# Altium schematic symbol library balloon.SchLib: 132 symbols (part 1 of 2)
Pins are listed as number, name and electrical type; pins without a type are passive.

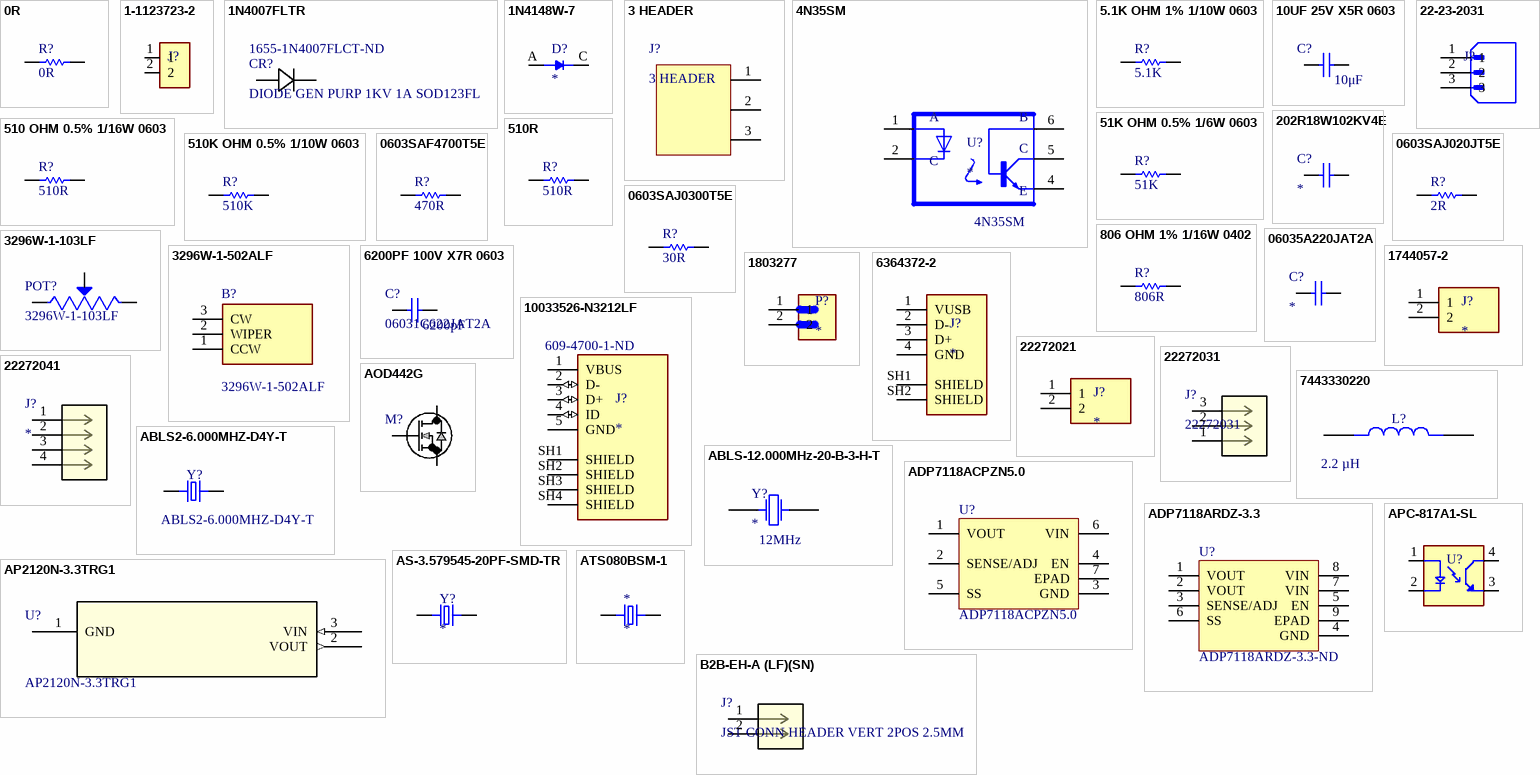
[diagram p0: symbols 0R to B2B-EH-A (LF)(SN)]

## 0R
designator R?, comment Resistance: 0R  (hidden comment: CR0603AJ/-000EAS)
RES.(1608) 0603 0R Ohms 1% 1/10W-S; Supplier PN: CR0603AJ/-000EASCT-ND; Supplier: DIGIKEY; ComponentLink1Description: Supplier Link; ComponentLink1URL: 0R; Supplier 1: Digi-Key; Supplier Part Number 1: CR0603AJ/-000EASCT-ND
footprint 0603 RES
pins: 1, 2

## 1-1123723-2
designator J?, comment CONN HEADER VERT 2POS 3.96MM  (value not drawn)
Connector Header Through Hole 2 position 0.156" (3.96mm); Manufacturer: TE Connectivity AMP Connectors; Number_of_Positions: 2; MF: TE Connectivity; MP: 1-1123723-2; Centerline_Pitch: 3.96 mm[.156 in]; EU_RoHS_Compliance: Compliant; Value: *; TE_purchase_URL: https://www.te.com/usa-en/product-1-1123723-2.html?te_bu=Cor&te_type=disp&te_campaign=seda_glo_cor-seda-global-disp-prtnr-fy19-seda-model-bom-cta_sma-317_1&elqCampaignId=32493; Product_Type: Header; SnapEDA_Link: https://www.snapeda.com/parts/1-1123723-2/TE%20Connectivity%20AMP%20Connectors/view-part/231687/?ref=snap; Package: None; Digi-Key_Purchase_URL: https://www.digikey.com/product-detail/en/te-connectivity-amp-connectors/1-1123723-2/A111830-ND/686925?utm_source=snapeda&utm_medium=aggregator&utm_campaign=symbol; Digi-Key_Part_Number: A111830-ND; Supplier PN: A111830-ND; Supplier: DIGIKEY; Manufacturer PN: 1-1123723-2
footprint TE_1-1123723-2
pins: 1, 2

## 1N4007FLTR
designator CR?, comment DIODE GEN PURP 1KV 1A SOD123FL  Supplier Part Number 1: 1655-1N4007FLCT-ND
Diode Standard 1000 V 1A Surface Mount SOD-123FL; Mfr_Name: SMC Diode Solutions; Manufacturer_Part_Number: 1N4007FLTR; Manufacturer PN: 1N4007FL; Type: DEV; Copyright: Copyright (C) 2022 Ultra Librarian. All rights reserved.; Digi-Key_Part_Number_1: 1655-1N4007FLCT-ND; Digi-Key_Part_Number_2: 1655-1N4007FLDKR-ND; Digi-Key_Part_Number_3: 1655-1N4007FLTR-ND; RefDes: RefDes; Supplier 1: Digi-Key; Supplier PN: 1655-1N4007FLCT-ND; Supplier: DIGIKEY
footprint CR_SOD-123FL_SME
pins: 1, 2

## 1N4148W-7
designator D?
Diode Standard 100 V 300mA (DC) Surface Mount SOD-123; MF: Diodes Inc.; MP: 1N4148W; Value: *; Price: None; Package: SOD-123 Fairchild Semiconductor; SnapEDA_Link: https://www.snapeda.com/parts/1N4148W-7/Diodes+Inc./view-part/?ref=snap; Availability: In Stock; Check_prices: https://www.snapeda.com/parts/1N4148W-7/Diodes+Inc./view-part/?ref=eda; Purchase-URL: https://www.digikey.com/en/products/detail/smc-diode-solutions/1N4148W/6022450; Supplier PN: 1655-1N4148WCT-ND; Supplier: Digikey
footprint SOD3715X135N
pins: A, C K

## 3 HEADER
designator J?
footprint 3 HEADER
pins: 1, 2, 3

## 4N35SM
designator U?  MP: 4N35SM
Transistor Output Optocouplers PHOTO TRANS; MF: ON Semiconductor / Fairchild; SnapEDA_Link: https://www.snapeda.com/parts/4N35SM/Fairchild%20Semiconductor/view-part/4834122/?ref=snap; Mouser-Purchase-URL: https://snapeda.com/shop?store=Mouser&id=4834122; Availability: Good; DigiKey-Purchase-URL: https://snapeda.com/shop?store=DigiKey&id=4834122; Package: None; Value: *; Price: None; Arrow_Electronics-Purchase-URL: https://snapeda.com/shop?store=Arrow+Electronics&id=4834122; Supplier 1: Digi-Key; Supplier Part Number 1: 4N35SM-ND
footprint OPTO_4N35SM
pins: 1 A, 2 C, 4 E, 5 CO, 6 B

## 5.1K OHM 1% 1/10W 0603
designator R?, comment Resistance: 5.1K  (hidden comment: RC0603FR-075K1L)
RES 5.1K OHM 1% 1/10W 0603; Supplier PN: 311-5.10KHRCT-ND; Supplier: DIGIKEY; ComponentLink1Description: Supplier Link; ComponentLink1URL: 0R; Supplier 1: Digi-Key; Supplier Part Number 1: 311-5.10KHRCT-ND
footprint 0603 RES
pins: 1, 2

## 10UF 25V X5R 0603
designator C?, comment value 10μF  (hidden comment: GRM188R61E106KA73J)
CAP CER 10UF 25V X5R 0603; Supplier PN: 490-GRM188R61E106KA73JCT-ND; Supplier: DIGIKEY; Supplier 1: Digi-Key; Supplier Part Number 1: 490-GRM188R61E106KA73JCT-ND
footprint 0603 CAP
pins: 1, 2

## 22-23-2031
designator J?, comment MOLEX CONN HEADER VERT 3POS 2.54MM  (value not drawn)
Connector Header Through Hole 3 position 0.100" (2.54mm); Digi-Key_Part_Number: WM4201-ND; Check_prices: https://www.snapeda.com/parts/22-23-2031/Molex/view-part/?ref=eda; MF: Molex; SnapEDA_Link: https://www.snapeda.com/parts/22-23-2031/Molex/view-part/?ref=snap; Value: *; MP: 22-23-2031; Package: None; Purchase-URL: https://pricing.snapeda.com/search/part/22-23-2031/?ref=eda
footprint MOLEX_22-23-2031
pins: 1, 2, 3

## 51K OHM 0.5% 1/6W 0603
designator R?, comment Resistance: 51K  (hidden comment: RNCF0603DTE51K0)
RES 51K OHM 0.5% 1/6W 0603; Supplier PN: 738-RNCF0603DTE51K0CT-ND; Supplier: DIGIKEY; ComponentLink1Description: Supplier Link; ComponentLink1URL: https://www.digikey.com/en/products/detail/stackpole-electronics-inc/RNCF0603DTE51K0/1708165; Supplier 1: Digi-Key; Supplier Part Number 1: 738-RNCF0603DTE51K0CT-ND
footprint 0603 RES
pins: 1, 2

## 202R18W102KV4E
designator C?
1000pF Â±10% 2000V (2kV) Ceramic Capacitor X7R 1206 (3216 Metric); MF: Johanson Dielectrics; MP: 202R18W102KV4E; Digi-Key_Part_Number: 709-1036-1-ND; SnapEDA_Link: https://www.snapeda.com/parts/202R18W102KV4E/Johanson%20Dielectrics%20Inc./view-part/2041482/?ref=snap; Purchase-URL: https://pricing.snapeda.com/search/part/202R18W102KV4E/?ref=eda; Package: 1206 Johanson; Value: *; Check_prices: https://www.snapeda.com/parts/202R18W102KV4E/Johanson%20Dielectrics%20Inc./view-part/2041482/?ref=eda
footprint CAPC3115X170N
pins: 1, 2

## 510 OHM 0.5% 1/16W 0603
designator R?, comment Resistance: 510R  (hidden comment: RR0816P-511-D)
RES SMD 510 OHM 0.5% 1/16W 0603; Supplier PN: 541-3190-1-ND; Supplier: DIGIKEY; ComponentLink1Description: Supplier Link; ComponentLink1URL: 0R; Supplier 1: Digi-Key; Supplier Part Number 1: RR08P510DCT-ND
footprint 0603 RES
pins: 1, 2

## 510K OHM 0.5% 1/10W 0603
designator R?, comment Resistance: 510K  (hidden comment: RT0603DRE07510KL)
RES SMD 510K OHM 0.5% 1/10W 0603; Supplier PN: 311-2610-1-ND; Supplier: DIGIKEY; ComponentLink1Description: Supplier Link; ComponentLink1URL: 0R; Supplier 1: Digi-Key; Supplier Part Number 1: 311-2610-1-ND
footprint 0603 RES
pins: 1, 2

## 510R
designator R?, comment Resistance: 510R  (hidden comment: TNPW0603510RBEEA)
RES 510 OHM 0.1% 1/10W 0603; Supplier PN: 541-3190-1-ND; Supplier: DIGIKEY; ComponentLink1Description: Supplier Link; ComponentLink1URL: 0R; Supplier 1: Digi-Key; Supplier Part Number 1: 541-3190-1-ND
footprint 0603 RES
pins: 1, 2

## 0603SAF4700T5E
designator R?  Resistance: 470R  (hidden comment: 0603SAF4700T5E)
RES.(1608) 0603 470 Ohms 1% 1/10W-S 100PPM; Supplier PN: 0603SAF4700T5E; Supplier: OZDISAN; ComponentLink1Description: Supplier Link; ComponentLink1URL: https://ozdisan.com/pasif-komponentler/direncler/smt-smd-ve-cip-direncler/0603SAF4700T5E
footprint 0603RES
pins: 1, 2

## 0603SAJ020JT5E
designator R?  Resistance: 2R  (hidden comment: 0603SAJ020JT5E)
RES.(1608) 0603 2 Ohms 5% 1/10W-S 400PPM; Supplier PN: 0603SAJ020JT5E; Supplier: OZDISAN; ComponentLink1Description: Supplier Link; ComponentLink1URL: https://ozdisan.com/pasif-komponentler/direncler/smt-smd-ve-cip-direncler/0603SAJ020JT5E
footprint 0603RES
pins: 1, 2

## 0603SAJ0300T5E
designator R?  Resistance: 30R  (hidden comment: 0603SAJ0300T5E)
RES.(1608) 0603 30 Ohms 5% 1/10W-S 200PPM; Supplier PN: 0603SAJ0300T5E; Supplier: OZDISAN; ComponentLink1Description: Supplier Link; ComponentLink1URL: https://www.ozdisan.com/pasif-komponentler/direncler/smt-smd-ve-cip-direncler/0603SAJ0300T5E
footprint 0603RES
pins: 1, 2

## 806 OHM 1% 1/16W 0402
designator R?, comment Resistance: 806R  (hidden comment: RR0816P-511-D)
RES SMD 806 OHM 1% 1/16W 0402; Supplier PN: 541-3190-1-ND; Supplier: DIGIKEY; ComponentLink1Description: Supplier Link; ComponentLink1URL: https://www.digikey.com/en/products/detail/yageo/RT0402FRE07806RL/1072143; Supplier 1: Digi-Key; Supplier Part Number 1: YAG3349CT-ND
footprint 0402 RES
pins: 1, 2

## 3296W-1-103LF
designator POT?
Trimmer, Cermet, Rest 10 Kilohms, PCB, 25 Turns, Pwr-Rtg 0.5W, 3296 Series; Manufacturer: Bourns; Resistance: 10kR; Tolerance: 10%; Power Rating: 500mW; Number of Turns: 25; Temperature Coefficient: 100ppm/°C; Insulation Resistance: 1GR; Supplier 1: Digi-Key; Manufacturer Part Number: 3296W-1-103LF; RoHS: Yes; Category: Variable Resistors and Potentiometers; Stock 1: 7042; Pricing 1: 1=2.41000, 10=2.11700, 25=1.89800, 50=1.82500, 100=1.75200, 250=1.67900, 500=1.38700, 1000=1.31400, 5000=1.09500 (USD); Mount: PCB,Through Hole; Weight: 0.03oz; Color: Blue; Contact Plating: Tin,Matte; Min Operating Temperature: -55°C; Max Operating Temperature: 125°C; Packaging: Rail/Tube; Termination: Pin; Package Quantity: 50; Resistor Type: Cermet; Technology: CERMET; Taper: Linear; Max Power Dissipation: 500mW; Series: 3296; Resistance Tolerance: 10%; Length: 9.53mm; Width: 9.53mm; Height: 0.395inch; Depth: 4.83mm; Radiation Hardening: No; Military Standard: Not; REACH SVHC: No SVHC; RoHS Compliant: Yes; Lead Free: Lead Free; ComponentLink1URL: https://datasheet.ciiva.com/19454/853572-19454866.pdf?src-supplier=Jameco; ComponentLink1Description: https://datasheet.ciiva.com/19454/853572-19454866.pdf?src-supplier=Jameco; ComponentLink2URL: https://datasheet.ciiva.com/11830/0900766b8069ccf4-11830871.pdf?src-supplier=RSComponents; ComponentLink2Description: https://datasheet.ciiva.com/11830/0900766b8069ccf4-11830871.pdf?src-supplier=RSComponents; ComponentLink3URL: https://datasheet.ciiva.com/29122/447277-da-01-en-trimmer-tht3296w-1-103lf-10k-0-5w-29122362.pdf?src-supplier=Conrad; ComponentLink3Description: https://datasheet.ciiva.com/29122/447277-da-01-en-trimmer-tht3296w-1-103lf-10k-0-5w-29122362.pdf?src-supplier=Conrad; ComponentLink4URL: https://datasheet.ciiva.com/26913/3296w-1-103lf-26913885.pdf?src-supplier=IIIC; ComponentLink4Description: https://datasheet.ciiva.com/26913/3296w-1-103lf-26913885.pdf?src-supplier=IIIC; ComponentLink5URL: https://datasheet.ciiva.com/1131/1815117-1131273.pdf?src-supplier=Element14; ComponentLink5Description: https://datasheet.ciiva.com/1131/1815117-1131273.pdf?src-supplier=Element14; ComponentLink6URL: https://datasheet.ciiva.com/18411/70153578-18411561.pdf?src-supplier=Allied+Electronics; ComponentLink6Description: https://datasheet.ciiva.com/18411/70153578-18411561.pdf?src-supplier=Allied+Electronics; ComponentLink7URL: https://datasheet.ciiva.com/3266/3296-3266187.pdf?src-supplier=Avnet; ComponentLink7Description: https://datasheet.ciiva.com/3266/3296-3266187.pdf?src-supplier=Avnet; ComponentLink8URL: https://datasheet.ciiva.com/30093/3296-30093899.pdf?src-supplier=Onlinecomponents.com; ComponentLink8Description: https://datasheet.ciiva.com/30093/3296-30093899.pdf?src-supplier=Onlinecomponents.com; ComponentLink9URL: https://datasheet.ciiva.com/2156/3296-2156893.pdf?src-supplier=Digi-Key; ComponentLink9Description: https://datasheet.ciiva.com/2156/3296-2156893.pdf?src-supplier=Digi-Key; ComponentLink10URL: https://datasheet.ciiva.com/14173/ew3296-dat-e-14173022.pdf?src-supplier=Distrelec; ComponentLink10Description: https://datasheet.ciiva.com/14173/ew3296-dat-e-14173022.pdf?src-supplier=Distrelec; Supplier Part Number 1: 3296W-103LF-ND
footprint 3296W-1-103LF
pins: 1 CCW, 2 WIPER, 3 CW

## 3296W-1-502ALF
designator B?
Trimmer Resistors - Through Hole 3/8" 5Kohms Sealed Vertical Adjust; Manufacturer_Name: Bourns; Geometry.Height: 11.8mm; Manufacturer_Part_Number: 3296W-1-502ALF; Mouser Part Number: 652-3296W-1-502ALF; Mouser Price/Stock: https://www.mouser.co.uk/ProductDetail/Bourns/3296W-1-502ALF?qs=2esLye6h6wF9Wpw2gFsopg%3D%3D; Arrow Part Number: 3296W-1-502ALF; Arrow Price/Stock: https://www.arrow.com/en/products/3296w-1-502alf/bourns?utm_currency=USD&region=nac; Datasheet Link: https://www.bourns.com/docs/Product-Datasheets/3296.pdf
footprint 3296W1502ALF
pins: 1 CCW, 2 WIPER, 3 CW

## 06035A220JAT2A
designator C?
22pF ±5% 50V Ceramic Capacitor C0G, NP0 0603 (1608 Metric); MP: 06035A220JAT2A; MF: AVX; SnapEDA_Link: https://www.snapeda.com/parts/06035A220JAT2A/AVX/view-part/349759/?ref=snap; Availability: Good; Package: 1608 AVX; Price: None; Value: 22pF; Purchase-URL: https://pricing.snapeda.com/search/part/06035A220JAT2A/?ref=eda; Supplier 1: Digi-Key; Supplier Part Number 1: 478-1167-1-ND
footprint 0603cap
pins: 1, 2

## 6200PF 100V X7R 0603
designator C?, comment 06031C622JAT2A  value 6200pF
CAP CER 6200PF 100V X7R 0603; Supplier 1: Digi-Key; Supplier Part Number 1: 478-10228-1-ND; Supplier PN: 478-10228-1-ND; Supplier: DIGIKEY
footprint 0603 CAP
pins: 1, 2

## 1744057-2
designator J?
3.96 EP HDR ASSY 2P W/PEGS; Manufacturer: TE Connectivity AMP Connectors; Product_Type: Header; Centerline_Pitch: 3.96 mm[.156 in]; Number_of_Positions: 2; MF: TE Connectivity; MP: 1744057-2; Availability: Good; Price: None; SnapEDA_Link: https://www.snapeda.com/parts/1744057-2/TE%20Connectivity/view-part/900004/?ref=snap; Mouser-Purchase-URL: https://snapeda.com/shop?store=Mouser&id=900004; EU_RoHS_Compliance: Compliant; Value: *; Package: None; DigiKey-Purchase-URL: https://snapeda.com/shop?store=DigiKey&id=900004; Supplier PN: A108467-ND; Manufacturer PN: 1744057-2; Supplier: DIGIKEY; Supplier 1: Digi-Key; Supplier Part Number 1: A108467-ND
footprint TE_1744057-2
pins: 1, 2

## 1803277
designator P?
2 Position Terminal Block Header, Male Pins, Shrouded _4 Side_ 0.150 _3.81mm_ 90Â°, Right Angle Through Hole; MP: 1803277; MF: Phoenix Contact; Digi-Key_Purchase_URL: https://www.digikey.com/product-detail/en/phoenix-contact/1803277/277-1206-ND/260574?utm_source=snapeda&utm_medium=aggregator&utm_campaign=symbol; Digi-Key_Part_Number: 277-1206-ND; Package: FakePackage N; Value: *; SnapEDA_Link: https://www.snapeda.com/parts/1803277/Phoenix%20Contact/view-part/115436/?ref=snap; Supplier PN: 277-1206-ND; Supplier: DIGIKEY; Manufacturer PN: 1803277; Manufacturer: Phoenix Contact; Supplier 1: Digi-Key; Supplier Part Number 1: 277-1206-ND
footprint PHOENIX_1803277
pins: 1, 2

## 6364372-2
designator J?
Conn USB 2.0 Type A RCP 4 POS Solder RA Thru-Hole 4 Terminal 1 Port Box/Tube; Manufacturer: TE Connectivity AMP Connectors; MP: 6364372-2; MF: TE Connectivity; SnapEDA_Link: https://www.snapeda.com/parts/6364372-2/TE+Connectivity+AMP+Connectors/view-part/?ref=snap; Package: None; Check_prices: https://www.snapeda.com/parts/6364372-2/TE+Connectivity+AMP+Connectors/view-part/?ref=eda; Purchase-URL: https://pricing.snapeda.com/search/part/6364372-2/?ref=eda; Digi-Key_Part_Number: A122647-ND; EU_RoHS_Compliance: Compliant; Value: *; Supplier PN: A122647-ND; Supplier: DIGIKEY; Manufacturer PN: 6364372-2
footprint TE_6364372-2
pins: 1 VUSB, 2 D-, 3 D+, 4 GND, SH1 SHIELD, SH2 SHIELD

## 10033526-N3212LF
designator J?  Supplier Part Number 1: 609-4700-1-ND
MINI USB, R/A, 2.0 TYPE B, RCPT, SMD; USB Connector Type:Mini USB Type B; USB Standard:USB 2.0; Gender:Receptacle; No. of Positions:5Positions; Connector Mounting:Surface Mount; Orientation:Right Angle; Contact Material:Copper Alloy RoHS Compliant: Yes; Manufacturer PN: 10033526-N3212LF; Manufacturer: Amphenol ICC (FCI); MP: 10033526N3212LF; MF: Amphenol; Package: None; Availability: In Stock; Value: *; Price: None; SnapEDA_Link: https://www.snapeda.com/parts/10033526N3212LF/Amphenol/view-part/?ref=snap; Check_prices: https://www.snapeda.com/parts/10033526N3212LF/Amphenol/view-part/?ref=eda; Supplier PN: 609-4700-1-ND; Supplier: DIGIKEY; Supplier 1: Digi-Key
footprint AMPHENOL_10033526-N3212LF
pins: 1 VBUS (power), 2 D- (io), 3 D+ (io), 4 ID (io), 5 GND (power), SH1 SHIELD, SH2 SHIELD, SH3 SHIELD, SH4 SHIELD

## 22272021
designator J?
Conn Wire to Board HDR 2 POS 2.54mm Solder ST Thru-Hole Bag; MF: Molex; MP: 22272021; Value: *; SnapEDA_Link: https://www.snapeda.com/parts/22272021/Molex/view-part/?ref=snap; Purchase-URL: https://pricing.snapeda.com/search/part/22272021/?ref=eda; Check_prices: https://www.snapeda.com/parts/22272021/Molex/view-part/?ref=eda; Digi-Key_Part_Number: WM4111-ND; Package: None
footprint MOLEX_22272021
pins: 1, 2

## 22272031
designator J?
No Description Available; Mfr_Name: Molex Connector Corporation; Copyright: Copyright (C) 2023 Ultra Librarian. All rights reserved.; Manufacturer_Part_Number: 22272031; Digi-Key_Part_Number_1: WM4112-ND; RefDes: RefDes; Type: DEV
footprint CONN_22-27-2031_MOL
pins: 1, 2, 3

## 22272041
designator J?
No Description Available; Mfr_Name: Molex Connector Corporation; RefDes: RefDes; Type: Type
footprint CONN_22-27-2041_MOL
pins: 1, 2, 3, 4

## 7443330220
designator L?, comment Inductance: 2.2 µH  (hidden comment: FIXED IND 2.2UH 16.5A 4.8MOHM SM)
2.2 µH Shielded Drum Core, Wirewound Inductor 16.5 A 4.8mOhm Max Nonstandard; MF: Wurth Elektronik; MP: 7443330220; SnapEDA_Link: https://www.snapeda.com/parts/7443310220/Wurth+Elektronik/view-part/?ref=snap; Digi-Key_Part_Number: 732-2153-1-ND; Package: None; Supplier PN: 732-2153-1-ND; Supplier 1: Digi-Key; Supplier Part Number 1: 732-2153-1-ND
footprint IND_7443330220
pins: 1, 2

## ABLS2-6.000MHZ-D4Y-T
designator Y?
CRYSTAL 6.0000MHZ 18PF SMD; Manufacturer: Abracon LLC; Value: 6MHz; MF: ECS Inc.; Package: HC-49/US; Availability: Good; Supplier PN: 535-9861-1-ND; Supplier: DIGIKEY; ComponentLink1Description: Supplier Link; ComponentLink1URL: https://www.ozdisan.com/pasif-komponentler/kristaller-osilatorler-ve-rezanatorler/kristaller/AS-3-579545-20PF-SMD-TR; Manufacturer PN: ABLS2-6.000MHZ-D4Y-T
footprint XTAL_ABLS2-6.000MHZ-D4Y-T
pins: 1, 2

## ABLS-12.000MHz-20-B-3-H-T
designator Y?  value 12MHz
HC/49US (AT49) SMD LOW PROFILE CRYSTAL; MF: Abracon LLC; MP: ABLS-12.000MHZ-20-B-3-H-T; SnapEDA_Link: https://www.snapeda.com/parts/ABLS-12.000MHZ-20-B-3-H-T/Abracon+LLC/view-part/?ref=snap; Check_prices: https://www.snapeda.com/parts/ABLS-12.000MHZ-20-B-3-H-T/Abracon+LLC/view-part/?ref=eda; Digi-Key_Part_Number: 535-15006-2-ND; Package: None; Purchase-URL: https://pricing.snapeda.com/search/part/ABLS-12.000MHZ-20-B-3-H-T/?ref=eda; Supplier 1: Digi-Key; Supplier Part Number 1: 535-15006-1-ND
footprint XTAL_ABLS-12.000MHz-20-B-3-H-T
pins: 1, 2

## ADP7118ACPZN5.0
designator U?
LDO Regulator Pos 5V 0.2A 6-Pin LFCSP T/R; Manufacturer: Analog Devices; Manufacturer Part Number: ADP7118ACPZN5.0-R7; Output Current: 200mA; Dropout Voltage: 200mV; Number of Regulators: 1; Min Current Limit: 250mA; Supplier 1: Digi-Key; RoHS: Yes; Category: Voltage Regulators - Linear; Stock 1: 4481; Pricing 1: 1=2.41000, 10=2.16300, 25=2.04040, 100=1.73850, 250=1.63240, 500=1.42836, 1000=1.27050 (USD); Mount: Surface Mount; Number of Pins: 6; Min Operating Temperature: -40°C; Max Operating Temperature: 125°C; Packaging: Tape and Reel; Output Voltage: 5V; Lead Free: Contains Lead; RoHS Compliant: Yes; ComponentLink1URL: https://www.analog.com/media/en/technical-documentation/data-sheets/ADP7118.pdf?src-supplier=Digi-Key; ComponentLink1Description: https://www.analog.com/media/en/technical-documentation/data-sheets/ADP7118.pdf?src-supplier=Digi-Key; ComponentLink2URL: http://www.analog.com/static/imported-files/data_sheets/ADP7118.pdf?src-supplier=Avnet; ComponentLink2Description: http://www.analog.com/static/imported-files/data_sheets/ADP7118.pdf?src-supplier=Avnet; Supplier Part Number 1: ADP7118ACPZN5.0-R7CT-ND
footprint LFCSP-6_large
pins: 1 VOUT, 2 SENSE/ADJ, 3 GND, 4 EN, 5 SS, 6 VIN, 7 EPAD

## ADP7118ARDZ-3.3
designator U?  Supplier Part Number 1: ADP7118ARDZ-3.3-ND  (hidden comment: ADP7118ARDZ-3.3)
LDO Regulator Positive 3.3V 0.2A 8-Pin SOIC N EP Tube; Manufacturer: Analog Devices; Output Current: 200mA; Dropout Voltage: 200mV; Number of Regulators: 1; Min Current Limit: 250mA; Min Input Voltage: 2.7V; Max Input Voltage: 20V; Quiescent Current: 50uA; Accuracy: 0.8%; Output Type: Fixed; Supplier 1: Digi-Key; Manufacturer Part Number: ADP7118ARDZ-3.3; RoHS: Yes; Category: Voltage Regulators - Linear; Stock 1: 967; Pricing 1: 1=2.44000, 10=2.19100, 25=2.06720, 100=1.76110, 250=1.65360, 500=1.44690, 1000=1.28700 (USD); Mount: Surface Mount; Case/Package: SOIC; Number of Pins: 8; Contact Plating: Tin,Matte; Min Operating Temperature: -40°C; Max Operating Temperature: 125°C; Packaging: Rail/Tube; Output Voltage: 3.3V; Max Output Current: 200mA; Number of Outputs: 1; Polarity: Positive; Length: 5mm; Width: 4mm; Height: 1.65mm; Lead Free: Contains Lead; RoHS Compliant: Yes; ComponentLink1URL: http://uk.rs-online.com/webdocs/13b2/0900766b813b26d7.pdf?src-supplier=RSComponents; ComponentLink1Description: http://uk.rs-online.com/webdocs/13b2/0900766b813b26d7.pdf?src-supplier=RSComponents; ComponentLink2URL: http://www.mouser.com/ds/2/609/ADP7118-876130.pdf?src-supplier=Mouser; ComponentLink2Description: http://www.mouser.com/ds/2/609/ADP7118-876130.pdf?src-supplier=Mouser; ComponentLink3URL: http://www.analog.com/media/en/technical-documentation/data-sheets/ADP7118.pdf?src-supplier=Avnet; ComponentLink3Description: http://www.analog.com/media/en/technical-documentation/data-sheets/ADP7118.pdf?src-supplier=Avnet; ComponentLink4URL: http://www.analog.com/media/en/technical-documentation/data-sheets/ADP7118.pdf?src-supplier=Digi-Key; ComponentLink4Description: http://www.analog.com/media/en/technical-documentation/data-sheets/ADP7118.pdf?src-supplier=Digi-Key
footprint SOIC8
pins: 1 VOUT, 2 VOUT, 3 SENSE/ADJ, 4 GND, 5 EN, 6 SS, 7 VIN, 8 VIN, 9 EPAD

## AOD442G
designator M?, comment MOSFET N-CH 60V 13A/40A TO252  (value not drawn)
N-Channel 60 V 13A (Ta), 40A (Tc) 6.2W (Ta), 60W (Tc) Surface Mount TO-252 (DPAK); Manufacturer PN: AOD442G; Supplier 1: Digi-Key; Supplier Part Number 1: 785-AOD442GCT-ND; Supplier PN: 785-AOD442GCT-ND
footprint DPAK229P990X238-3N
pins: 1 G, 2 D, 3 S

## AP2120N-3.3TRG1
designator U?
IC REG LINEAR 3.3V 150MA SOT23; Mfr_Name: Diodes Inc; Manufacturer: Diodes Incorporated; RefDes: RefDes; Type: Type; Supplier: DIGIKEY; Supplier PN: AP2120N-3.3TRG1DICT-ND; Supplier 1: Digi-Key; Supplier Part Number 1: AP2120N-3.3TRG1DICT-ND; Manufacturer PN: AP2120N-3.3TRG1
footprint SOT-23_DIO
pins: 1 GND (power), 2 VOUT (out), 3 VIN (in)

## APC-817A1-SL
designator U?, comment OPTOISOLATOR 5KV 1CH TRANS 4SMD  (value not drawn)
Optoisolator Transistor Output 5000Vrms 1 Channel 4-SMD; Manufacturer PN: APC-817A1-SL; Manufacturer: American Bright Optoelectronics Corporation; MP: PC817XI; MF: Sharp Microelectronics; Price: None; Availability: In Stock; Package: SMD-4 Sharp Microelectronics; Value: *; SnapEDA_Link: https://www.snapeda.com/parts/PC817XI/Sharp+Microelectronics/view-part/?ref=snap; Purchase-URL: https://pricing.snapeda.com/search/part/PC817XI/?ref=eda; Check_prices: https://www.snapeda.com/parts/PC817XI/Sharp+Microelectronics/view-part/?ref=eda; Supplier: DIGIKEY; Supplier PN: 2007-APC-817A1-SLCT-ND
footprint SOIC254P975X460-4N
pins: 1 A, 2 C, 3 ET, 4 CT

## AS-3.579545-20PF-SMD-TR
designator Y?
CRYSTAL 3.579545MHZ HC49S 20PF SMD TR RALTRON; MP: AS-3.579545-20PF-SMD-TR; MF: ECS Inc.; Package: CRYSTAL 3.579545MHZ HC49S 20PF SMD TR RALTRON; Price: None; Availability: Good; Value: 3.579545MHz; Mouser-Purchase-URL: https://snapeda.com/shop?store=Mouser&id=2549147; SnapEDA_Link: https://www.snapeda.com/parts/ECS-35-18-5PXDU-TR/ECS%20Inc./view-part/2549147/?ref=snap; Supplier PN: AS-3.579545-20PF-SMD-TR; Supplier: OZDISAN; ComponentLink1Description: Supplier Link; ComponentLink1URL: https://www.ozdisan.com/pasif-komponentler/kristaller-osilatorler-ve-rezanatorler/kristaller/AS-3-579545-20PF-SMD-TR
footprint XTAL_ECS-35-18-5PXDU-TR
pins: 1, 2

## ATS080BSM-1
designator *
pins: 1, 2

## B2B-EH-A (LF)(SN)
designator J?, comment JST CONN HEADER VERT 2POS 2.5MM
Connector Header Through Hole 2 position 0.098" (2.50mm); Manufacturer_Part_Number: B2B-EH-A (LF)(SN); Manufacturer PN: B2B-EH-A(LF)(SN); Copyright: Copyright (C) 2023 Ultra Librarian. All rights reserved.; Mfr_Name: JST; Digi-Key_Part_Number_1: 455-1611-ND; RefDes: RefDes; Type: DEV; Supplier PN: 455-1611-ND
footprint CONN_B2B-EH-A (LF)(SN)_JST
pins: 1, 2

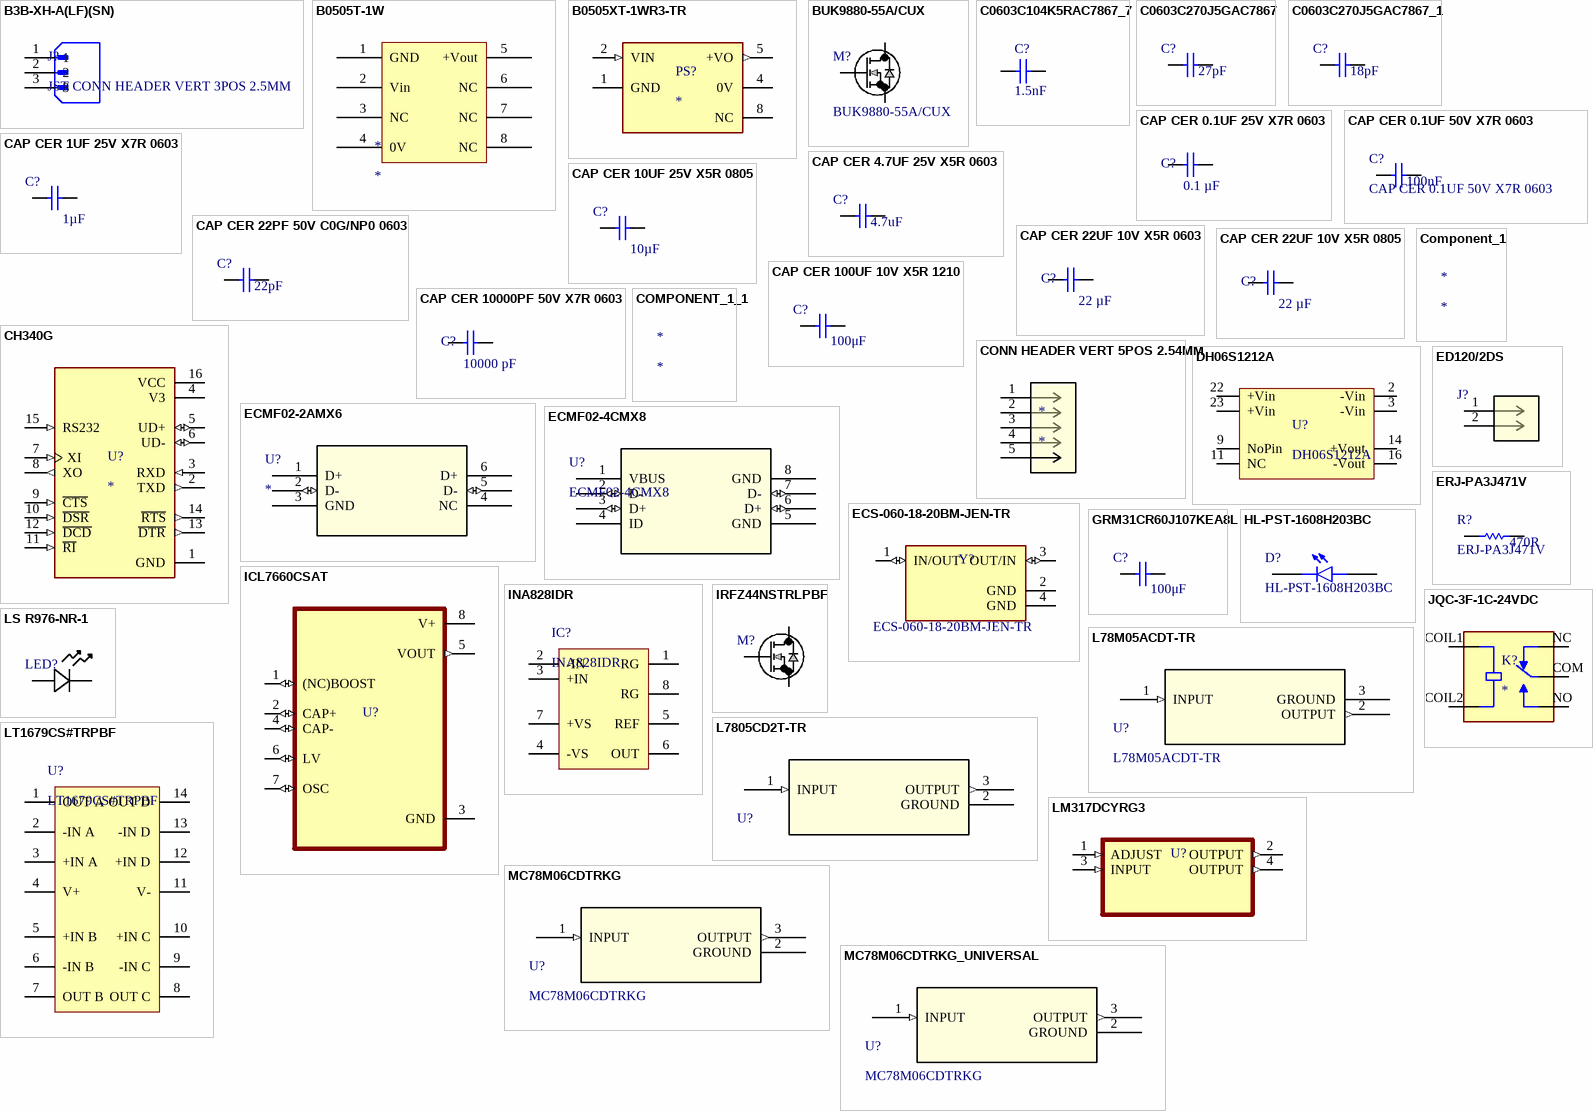
[diagram p1: symbols B3B-XH-A(LF)(SN) to MC78M06CDTRKG_UNIVERSAL]

## B3B-XH-A(LF)(SN)
designator J?, comment JST CONN HEADER VERT 3POS 2.5MM
Connector Header Through Hole 3 position 0.098" (2.50mm); MP: B3B-XH-A(LF)(SN); MF: JST Sales; Check_prices: https://www.snapeda.com/parts/B3B-XH-A(LF)(SN)/JST+Sales+America+Inc./view-part/?ref=eda; Value: *; Availability: In Stock; Price: None; Package: None; SnapEDA_Link: https://www.snapeda.com/parts/B3B-XH-A(LF)(SN)/JST+Sales+America+Inc./view-part/?ref=snap; Purchase-URL: https://pricing.snapeda.com/search/part/B3B-XH-A(LF)(SN)/?ref=eda; Manufacturer PN: B3B-XH-A(LF)(SN); Supplier PN: 455-2248-ND
footprint JST_B3B-XH-A(LF)(SN)
pins: 1, 2, 3

## B0505T-1W
designator *
pins: 1 GND, 2 Vin (power), 3 NC, 4 0V, 5 +Vout, 6 NC, 7 NC, 8 NC

## B0505XT-1WR3-TR
designator PS?
Isolated Module DC DC Converter 1 Output 5V 200mA 4.5V - 5.5V Input; MP: B0505XT-1WR3-TR; MF: MORNSUN; Package: SOIC-8-5 MORNSUN; SnapEDA_Link: https://www.snapeda.com/parts/B0505XT-1WR3-TR/MORNSUN/view-part/5823714/?ref=snap; Check_prices: https://www.snapeda.com/parts/B0505XT-1WR3-TR/MORNSUN/view-part/5823714/?ref=eda; Availability: In Stock; Value: *; Price: None
footprint CONV_B0505XT-1WR3-TR
pins: 1 GND (power), 2 VIN (in), 4 0V, 5 +VO (out), 8 NC

## BUK9880-55A/CUX
designator M?
MOSFET N-CH 55V 7A SOT223; Manufacturer: Nexperia USA Inc.; Supplier PN: 1727-2230-1-ND; Supplier: DIGIKEY; Supplier 1: Digi-Key; Supplier Part Number 1: 1727-2230-1-ND; Manufacturer PN: BUK9880-55A/CUX
footprint TRANS_BCP56-16TX
pins: 1 G, 2 D, 3 S

## C0603C104K5RAC7867_7
designator C?, comment Capacitance: 1.5nF  (hidden comment: MLCC (1608) 0603 1.5nF 50VDC ±5% X7R)
Supplier PN: CL10B152JB8NNNC; Supplier: OZDISAN; ComponentLink1Description: Supplier Link; ComponentLink1URL: https://www.ozdisan.com/pasif-komponentler/kondansatorler/smt-smd-ve-mlcc-kondansatorler/CL10B152JB8NNNC
footprint 0603cap
pins: 1, 2

## C0603C270J5GAC7867
designator C?  Capacitance: 27pF  (hidden comment: C0603C270J5GAC7867)
CAP CER 27PF 50V C0G/NP0 0603; Supplier PN: 399-C0603C270J5GAC7867CT-ND; Supplier: Digikey; Manufacturer PN: C0603C270J5GAC7867; Supplier 1: Digi-Key; Supplier Part Number 1: 399-C0603C270J5GAC7867CT-ND
footprint 0603 CAP
pins: 1, 2

## C0603C270J5GAC7867_1
designator C?, comment Capacitance: 18pF  (hidden comment: 0603N180J500CT)
CAP CER 18PF 50V C0G/NP0 0603; Manufacturer: Walsin Technology Corporation; Supplier PN: 1292-1494-1-ND; Supplier: Digikey; Manufacturer PN: 0603N180J500CT; Supplier 1: Digi-Key; Supplier Part Number 1: 1292-1494-1-ND
footprint 0603 CAP
pins: 1, 2

## CAP CER 0.1UF 25V X7R 0603
designator C?  Capacitance: 0.1 µF  (hidden comment: CAP CER 0.1UF 25V X7R 0603)
0.1 µF ±5% 25V Ceramic Capacitor X7R 0603 (1608 Metric); Manufacturer PN: C0603C104J3RACAUTO; Supplier 1: Digi-Key; Supplier Part Number 1: 399-12996-1-ND; Supplier PN: 399-12996-1-ND
footprint 0603cap
pins: 1, 2

## CAP CER 0.1UF 50V X7R 0603
designator C?  Capacitance: 100nF
0.1 µF ±10% 50V Ceramic Capacitor X7R 0603 (1608 Metric); Manufacturer PN: C0603C104K5RAC7867; Supplier PN: 399-C0603C104K5RAC7867CT-ND; Supplier: Digikey
footprint 0603 CAP
pins: 1, 2

## CAP CER 1UF 25V X7R 0603
designator C?  Capacitance: 1µF  (hidden comment: CAP CER 1UF 25V X7R 0603)
1 µF ±10% 25V Ceramic Capacitor X7R 0603 (1608 Metric); Manufacturer: Samsung Electro-Mechanics; Manufacturer PN: CL10B105KA8NNNC; Supplier PN: 1276-1184-1-ND; Supplier: Digikey; Supplier 1: Digi-Key; Supplier Part Number 1: 1276-1184-1-ND
footprint 0603 CAP
pins: 1, 2

## CAP CER 4.7UF 25V X5R 0603
designator C?, comment Capacitance: 4.7uF  (hidden comment: C1608X5R1E475K080AC)
CAP CER 4.7UF 25V X5R 0603; Manufacturer: TDK Corporation; Supplier PN: 445-9050-1-ND; Supplier: Digikey; Manufacturer PN: C1608X5R1E475K080AC; Supplier 1: Digi-Key; Supplier Part Number 1: 445-9050-1-ND
footprint 0603 CAP
pins: 1, 2

## CAP CER 10UF 25V X5R 0805
designator C?  Capacitance: 10µF  (hidden comment: CAP CER 10UF 25V X5R 0805)
10 µF ±20% 25V Ceramic Capacitor X5R 0805 (2012 Metric); Supplier 1: Digi-Key; Supplier Part Number 1: 490-10748-1-ND
footprint CAPC2012X140N
pins: 1, 2

## CAP CER 22PF 50V C0G/NP0 0603
designator C?, comment Capacitance: 22pF  (hidden comment: 06035A220JAT2A)
22 pF ±5% 50V Ceramic Capacitor C0G, NP0 0603 (1608 Metric); Supplier PN: 478-1167-1-ND; Supplier: Digikey; Manufacturer PN: 06035A220JAT2A; Supplier 1: Digi-Key; Supplier Part Number 1: 478-1167-1-ND
footprint 0603 CAP
pins: 1, 2

## CAP CER 22UF 10V X5R 0603
designator C?, comment Capacitance: 22 µF  (hidden comment: CL10A226MP8NUNE)
CAP CER 22UF 10V X5R 0603; Manufacturer: Samsung Electro-Mechanics; Supplier PN: 1276-1274-1-ND; Manufacturer PN: CL10A226MP8NUNE; Supplier: Digikey
footprint 0603 CAP
pins: 1, 2

## CAP CER 22UF 10V X5R 0805
designator C?  Capacitance: 22 µF  (hidden comment: CAP CER 22UF 10V X5R 0805)
22 µF ±20% 10V Ceramic Capacitor X5R 0805 (2012 Metric); Manufacturer PN: GRM21BR61A226ME44L; Supplier 1: Digi-Key; Supplier Part Number 1: 490-10746-1-ND; Supplier PN: 490-10746-1-ND
footprint CAPC2012X140N
pins: 1, 2

## CAP CER 100UF 10V X5R 1210
designator C?, comment value 100μF  (hidden comment: GRM32ER61A107ME20L)
CAP CER 100UF 10V X5R 1210; Manufacturer: Murata Electronics; Supplier PN: 490-9969-1-ND; Supplier: DIGIKEY; Manufacturer PN: GRM32ER61A107ME20L; Supplier 1: Digi-Key; Supplier Part Number 1: 490-9969-1-ND
footprint CAPC(1210)_3225X280N
pins: 1, 2

## CAP CER 10000PF 50V X7R 0603
designator C?  Capacitance: 10000 pF  (hidden comment: CAP CER 10000PF 50V X7R 0603)
10000 pF ±10% 50V Ceramic Capacitor X7R 0603 (1608 Metric); Manufacturer PN: C1608X7R1H103K080AA; Supplier 1: Digi-Key; Supplier Part Number 1: 445-1311-1-ND; Supplier PN: 445-1311-1-ND
footprint 0603cap
pins: 1, 2

## CH340G
designator U?
MP: CH340G; Value: *; Package: None; Availability: Unavailable; Price: None
footprint SOIC127P600X180-16N
pins: 1 GND (power), 2 TXD (out), 3 RXD (in), 4 V3 (power), 5 UD+ (io), 6 UD- (io), 7 XI (in), 8 XO (out), 9 ~{CTS} (in), 10 ~{DSR} (in), 11 ~{RI} (in), 12 ~{DCD} (in), 13 ~{DTR} (out), 14 ~{RTS} (out), 15 RS232 (in), 16 VCC (power)

## Component_1
designator *

## COMPONENT_1_1
designator *

## CONN HEADER VERT 5POS 2.54MM
designator *
pins: 1, 2, 3, 4, 5

## DH06S1212A
designator U?
Module DC-DC 12VIN 1-OUT 12V 0.5A 6W 7-Pin PDIP
footprint DH06S1212A
pins: 2 -Vin, 3 -Vin, 9 NoPin, 11 NC, 14 +Vout, 16 -Vout, 22 +Vin, 23 +Vin

## ECMF02-2AMX6
designator U?
No Description Available; Mfr_Name: STMicroelectronics; RefDes: RefDes; Type: Type
footprint QFN-6L_STM-M - LARGE
pins: 1 D+, 2 D- (io), 3 GND (power), 4 NC, 5 D- (io), 6 D+

## ECMF02-4CMX8
designator U?
No Description Available; Mfr_Name: STMicroelectronics; Copyright: Copyright (C) 2022 Ultra Librarian. All rights reserved.; Manufacturer_Part_Number: ECMF02-4CMX8; Digi-Key_Part_Number_1: 497-13420-2-ND; Digi-Key_Part_Number_2: 497-13420-1-ND; Digi-Key_Part_Number_3: 497-13420-6-ND; RefDes: RefDes; Type: DEV; Supplier 1: Digi-Key; Supplier Part Number 1: 497-13420-1-ND
footprint MICRO_QFN-8L_STM
pins: 1 VBUS (power), 2 D- (io), 3 D+ (io), 4 ID, 5 GND, 6 D+ (io), 7 D- (io), 8 GND

## ECS-060-18-20BM-JEN-TR
designator Y?
6 MHz ±20ppm Crystal 18pF 70 Ohms 4-SMD, No Lead; MF: ECS Inc.; Value: 6MHZ; MP: ECS-060-18-20BM-JEN-TR; Package: SMD-4 ECS International; Purchase-URL: https://pricing.snapeda.com/search/part/ECS-060-18-20BM-JEN-TR/?ref=eda; Check_prices: https://www.snapeda.com/parts/ECS-060-18-20BM-JEN-TR/ECS%20Inc./view-part/2497452/?ref=eda; Price: None; Availability: Warning; SnapEDA_Link: https://www.snapeda.com/parts/ECS-060-18-20BM-JEN-TR/ECS%20Inc./view-part/2497452/?ref=snap; Manufacturer: ECS Inc.; Supplier: DIGIKEY; Supplier PN: XC2349CT-ND; Supplier 1: Digi-Key; Supplier Part Number 1: XC2349CT-ND; Manufacturer PN: ECS-060-18-20BM-JEN-TR
footprint ECS_ECS-060-18-20BM-JEN-TR
pins: 1 IN/OUT (io), 2 GND (power), 3 OUT/IN (io), 4 GND (power)

## ED120/2DS
designator J?  (value not drawn)
2 Position Wire to Board Terminal Block Horizontal with Board 0.200" (5.08mm) Through Hole; Mfr_Name: On Shore Technology; Copyright: Copyright (C) 2023 Ultra Librarian. All rights reserved.; Manufacturer_Part_Number: ED120/2DS; Digi-Key_Part_Number_1: ED1609-ND; RefDes: RefDes; Type: DEV; Supplier 1: Digi-Key; Supplier Part Number 1: ED1609-ND
footprint CONN_ED120/2DS_OST
pins: 1, 2

## ERJ-PA3J471V
designator R?  Resistance: 470R
RES SMD 470 OHM 5% 1/3W 0603; Mfr_Name: Panasonic; Copyright: Copyright (C) 2022 Ultra Librarian. All rights reserved.; Manufacturer_Part_Number: ERJ-PA3J471V; Digi-Key_Part_Number_1: P470BZTR-ND; Digi-Key_Part_Number_2: P470BZCT-ND; Digi-Key_Part_Number_3: P470BZDKR-ND; RefDes: RefDes; Type: DEV; Supplier 1: Digi-Key; Supplier Part Number 1: P470BZCT-ND
footprint RES_ERJPA3_PAN
pins: 1, 2

## GRM31CR60J107KEA8L
designator C?, comment value 100μF  (hidden comment: CAP CER 100UF 6.3V X5R 1206)
100 µF ±10% 6.3V Ceramic Capacitor X5R 1206 (3216 Metric); Manufacturer: Murata Electronics; Manufacturer PN: GRM31CR60J107KEA8L; Supplier PN: 490-GRM31CR60J107KEA8LCT-ND; Supplier: DIGIKEY
footprint CAP_GRM31_1206_MUR
pins: 1, 2

## HL-PST-1608H203BC
designator D?
LED SMD 0603 BLUE 100mcd 120° WATER CLEAR; Supplier PN: HL-PST-1608H203BC; Supplier: OZDISAN; ComponentLink9Description: Supplier Link; ComponentLink9URL: https://www.ozdisan.com/led-ve-aydinlatma-cozumleri/led-komponentler/sinyal-ledler-renkli/HL-PST-1608H203BC
footprint 0603Diode
pins: A, C

## ICL7660CSAT
designator U?, comment IC REG CHARG PUMP INV 45MA 8SOIC  (value not drawn)
Charge Pump Switching Regulator IC Positive or Negative Fixed -Vin, nVin, Vin/2 1 Output 20mA 8-SOIC (0.154, 3.90mm Width); MP: ICL7660CSA+T; MF: Maxim Integrated; Check_prices: https://www.snapeda.com/parts/ICL7660CSA+T/Maxim%20Integrated/view-part/8566/?ref=eda; Purchase-URL: https://pricing.snapeda.com/search/part/ICL7660CSA+T/?ref=eda; SnapEDA_Link: https://www.snapeda.com/parts/ICL7660CSA+T/Maxim%20Integrated/view-part/8566/?ref=snap; Value: *; Digi-Key_Part_Number: ICL7660CSA+TCT-ND; Package: SOIC-8 Maxim; Supplier 1: Digi-Key; Supplier Part Number 1: ICL7660AIBAZA-TCT-ND
footprint SOIC127P600X175-8N
pins: 1 (NC)BOOST (io), 2 CAP+ (io), 3 GND (power), 4 CAP- (io), 5 VOUT (out), 6 LV (io), 7 OSC (io), 8 V+ (power)

## INA828IDR
designator IC?
IC INST AMP 1 CIRCUIT 8SOIC; Supplier 1: Digi-Key; Supplier Part Number 1: 296-48914-1-ND
footprint SOIC8
pins: 1 RG, 2 -IN, 3 +IN, 4 -VS, 5 REF, 6 OUT, 7 +VS, 8 RG

## IRFZ44NSTRLPBF
designator M?  (value not drawn)
No Description Available; Mfr_Name: Infineon; Copyright: Copyright (C) 2023 Ultra Librarian. All rights reserved.; Manufacturer_Part_Number: IRFZ44NSTRLPBF; Digi-Key_Part_Number_1: IRFZ44NSTRLPBFTR-ND; Digi-Key_Part_Number_2: IRFZ44NSTRLPBFCT-ND; Digi-Key_Part_Number_3: IRFZ44NSTRLPBFDKR-ND; RefDes: RefDes; Type: DEV; Supplier 1: Digi-Key; Supplier Part Number 1: IRFZ44NSTRLPBFCT-ND; Supplier PN: IRFZ44NSTRLPBFCT-ND; Manufacturer PN: IRFZ44NSTRLPBF
footprint D2PAK_INF
pins: 1 G, 2 D, 3 S

## JQC-3F-1C-24VDC
designator K?
Miniature PCB Relay 24VDC, 10A 250VAC, 15A 125VAC, 10A 250VAC; MP: JQC-3F-1C-24VDC; Package: None; Value: *; Price: None; Availability: Unavailable; ComponentLink1Description: Supplier Link 2; ComponentLink1URL: https://www.direnc.net/12v-7a-tek-kontak-5-pinli-jqc-3ft73-12vdc-role-en; Supplier PN: JQC-3F-(T73)-1Z-12VDC; Supplier: OZDISAN; Supplier 2: DIRENC.NET; ComponentLink2Description: Supplier Link; ComponentLink2URL: https://ozdisan.com/elektromekanik-komponentler/role-role-soketleri/genel-tip-roleler/JQC-3F-T73-1Z-12VDC
footprint RELAY_JQC-3F-1C-24VDC
pins: COIL1, COIL2, COM, NC, NO

## L78M05ACDT-TR
designator U?
IC REG LINEAR 5V 500MA DPAK; Mfr_Name: STMicroelectronics; Copyright: Copyright (C) 2022 Ultra Librarian. All rights reserved.; Manufacturer_Part_Number: L78M05ACDT-TR; Digi-Key_Part_Number_1: 497-1202-1-ND; Digi-Key_Part_Number_2: 497-1202-2-ND; Digi-Key_Part_Number_3: 497-1202-6-ND; RefDes: RefDes; Type: DEV; Supplier PN 2: DSTK1864; Supplier PN: 497-1202-1-ND; Supplier: DIGIKEY; Supplier 2: OZDISAN; Manufacturer PN: L78M05ACDT-TR; Supplier 1: Digi-Key; Supplier Part Number 1: 497-1202-1-ND
footprint DPAK_STM
pins: 1 INPUT (in), 2 OUTPUT (out), 3 GROUND

## L7805CD2T-TR
designator U?, comment IC REG LINEAR 5V 1.5A D2PAK  (value not drawn)
Linear Voltage Regulator IC Positive Fixed 1 Output 1.5A D2PAK; Mfr_Name: onsemi; Manufacturer_Part_Number: MC78M06CDTRKG; Manufacturer: STMicroelectronics; Manufacturer PN: L7805CD2T-TR; Copyright: Copyright (C) 2022 Ultra Librarian. All rights reserved.; Digi-Key_Part_Number_1: 2156-MC78M06CDTRKG-OS-ND; Digi-Key_Part_Number_2: =MC78M06CDTRKG; Digi-Key_Part_Number_3: MC78M06CDTRKGOSCT-ND; Digi-Key_Part_Number_4: MC78M06CDTRKGOSDKR-ND; Digi-Key_Part_Number_5: MC78M06CDTRKGOSTR-ND; RefDes: RefDes; Type: DEV; Supplier 1: Digi-Key; Supplier Part Number 1: MC78M06CDTRKGOSCT-ND; Supplier PN: 497-1171-1-ND; Supplier: DIGIKEY
footprint D2PAK-DPAK_COMBINED_FOOTPRINT
pins: 1 INPUT (in), 2 GROUND (power), 3 OUTPUT (out)

## LM317DCYRG3
designator U?, comment LM317DCYR  (value not drawn)
Linear Voltage Regulator IC Positive Adjustable 1 Output 1.5A SOT-223-4; MP: LM317DCYRG3; MF: Texas Instruments; Availability: In Stock; SnapEDA_Link: https://www.snapeda.com/parts/LM317DCYRG3/Texas+Instruments/view-part/?ref=snap; Price: None; Purchase-URL: https://pricing.snapeda.com/search/part/LM317DCYRG3/?ref=eda; Value: *; Check_prices: https://www.snapeda.com/parts/LM317DCYRG3/Texas+Instruments/view-part/?ref=eda; Package: SOT-223-4 Texas Instruments; Manufacturer PN: LM317DCYR; Manufacturer: Texas Instruments; Supplier PN: 296-12602-1-ND; Supplier: Digikey; Supplier 1: Digi-Key; Supplier Part Number 1: 296-12602-1-ND
footprint SOT230P700X180-4N
pins: 1 ADJUST (in), 2 OUTPUT (out), 3 INPUT (in), 4 OUTPUT (out)

## LS R976-NR-1
designator LED?, comment LED RED DIFFUSED 0805 SMD  (value not drawn)
Red 633nm LED Indication - Discrete 2V 0805 (2012 Metric); Mfr_Name: ams OSRAM; Manufacturer_Part_Number: LS R976-NR-1; Type: DEV; Copyright: Copyright (C) 2023 Ultra Librarian. All rights reserved.; Digi-Key_Part_Number_1: 475-1278-2-ND; Digi-Key_Part_Number_2: 475-1278-1-ND; Digi-Key_Part_Number_3: 475-1278-6-ND; RefDes: RefDes; Supplier PN: 475-1278-1-ND; Manufacturer PN: LS R976-NR-1
footprint LED_LS R976_AOS
pins: 1, 2

## LT1679CS#TRPBF
designator U?
IC OPAMP GP 20MHZ RRO 14SO; Manufacturer: Analog Devices / Linear Technology; Common Mode Rejection Ratio: 98dB; Slew Rate: 6V/µs; Max Supply Voltage: 36V; Min Supply Voltage: 3V; Number of Circuits: 4; Input Bias Current: 2nA; Input Offset Voltage (Vos): 100uV; Operating Supply Current: 2.5mA; Output Current per Channel: 35mA; Voltage Gain: 131.6dB; Power Supply Rejection Ratio (PSRR): 100dB; Min Dual Supply Voltage: 1.35V; Max Dual Supply Voltage: 18V; Dual Supply Voltage: 15V; Amplifier Type: GENERAL PURPOSE; Supplier 1: Digi-Key; Manufacturer Part Number: LT1679CS#TRPBF; RoHS: Yes; Category: Amplifiers - Op Amps, Buffer, Instrumentation; Stock 1: 4120; Pricing 1: 1=9.36000, 10=8.45500, 25=8.06200, 100=7.00000, 250=6.68544, 500=6.12150 (USD); Case/Package: SOIC; Number of Pins: 14; Min Operating Temperature: -40°C; Max Operating Temperature: 85°C; Unity Gain Bandwidth Product: 20MHz; Package Quantity: 2500; Packaging: Tape and Reel; Gain Bandwidth Product: 20MHz; Number of Elements: 4; Number of Channels: 4; Series: -; Technology: BIPOLAR; Nominal Gain Bandwidth Product: 20MHz; Lead Free: Lead Free; RoHS Compliant: Yes; ComponentLink1URL: https://datasheet.ciiva.com/26856/lt1679cs-trpbf-26856232.pdf?src-supplier=IIIC; ComponentLink1Description: https://datasheet.ciiva.com/26856/lt1679cs-trpbf-26856232.pdf?src-supplier=IIIC; ComponentLink2URL: https://datasheet.ciiva.com/14799/2537-14799222.pdf?src-supplier=Digi-Key; ComponentLink2Description: https://datasheet.ciiva.com/14799/2537-14799222.pdf?src-supplier=Digi-Key; ComponentLink3URL: https://datasheet.ciiva.com/15057/2537-15057561.pdf?src-supplier=Digi-Key; ComponentLink3Description: https://datasheet.ciiva.com/15057/2537-15057561.pdf?src-supplier=Digi-Key; ComponentLink4URL: https://datasheet.ciiva.com/15057/2537-15057562.pdf?src-supplier=Digi-Key; ComponentLink4Description: https://datasheet.ciiva.com/15057/2537-15057562.pdf?src-supplier=Digi-Key; ComponentLink5URL: https://datasheet.ciiva.com/48709/001255015-da-01-en-ic-opamp-r-r-lt1679cs-trpbf-soic-14-ltc-48709003.pdf?src-supplier=Conrad; ComponentLink5Description: https://datasheet.ciiva.com/48709/001255015-da-01-en-ic-opamp-r-r-lt1679cs-trpbf-soic-14-ltc-48709003.pdf?src-supplier=Conrad; Supplier Part Number 1: LT1679CS#TRPBFCT-ND
footprint SO 14
pins: 1 OUT A, 2 -IN A, 3 +IN A, 4 V+, 5 +IN B, 6 -IN B, 7 OUT B, 8 OUT C, 9 -IN C, 10 +IN C, 11 V-, 12 +IN D, 13 -IN D, 14 OUT D

## MC78M06CDTRKG
designator U?
IC REG LINEAR 6V 500MA DPAK; Mfr_Name: onsemi; Copyright: Copyright (C) 2022 Ultra Librarian. All rights reserved.; Manufacturer_Part_Number: MC78M06CDTRKG; Digi-Key_Part_Number_1: 2156-MC78M06CDTRKG-OS-ND; Digi-Key_Part_Number_2: =MC78M06CDTRKG; Digi-Key_Part_Number_3: MC78M06CDTRKGOSCT-ND; Digi-Key_Part_Number_4: MC78M06CDTRKGOSDKR-ND; Digi-Key_Part_Number_5: MC78M06CDTRKGOSTR-ND; RefDes: RefDes; Type: DEV; Supplier 1: Digi-Key; Supplier Part Number 1: MC78M06CDTRKGOSCT-ND
footprint DPAK229P990X238-3N
pins: 1 INPUT (in), 2 GROUND (power), 3 OUTPUT (out)

## MC78M06CDTRKG_UNIVERSAL
designator U?, comment MC78M06CDTRKG
IC REG LINEAR 6V 500MA DPAK; Mfr_Name: onsemi; Copyright: Copyright (C) 2022 Ultra Librarian. All rights reserved.; Manufacturer_Part_Number: MC78M06CDTRKG; Digi-Key_Part_Number_1: 2156-MC78M06CDTRKG-OS-ND; Digi-Key_Part_Number_2: =MC78M06CDTRKG; Digi-Key_Part_Number_3: MC78M06CDTRKGOSCT-ND; Digi-Key_Part_Number_4: MC78M06CDTRKGOSDKR-ND; Digi-Key_Part_Number_5: MC78M06CDTRKGOSTR-ND; RefDes: RefDes; Type: DEV; Supplier 1: Digi-Key; Supplier Part Number 1: MC78M06CDTRKGOSCT-ND
footprint D2PAK-DPAK_COMBINED_FOOTPRINT
pins: 1 INPUT (in), 2 GROUND (power), 3 OUTPUT (out)

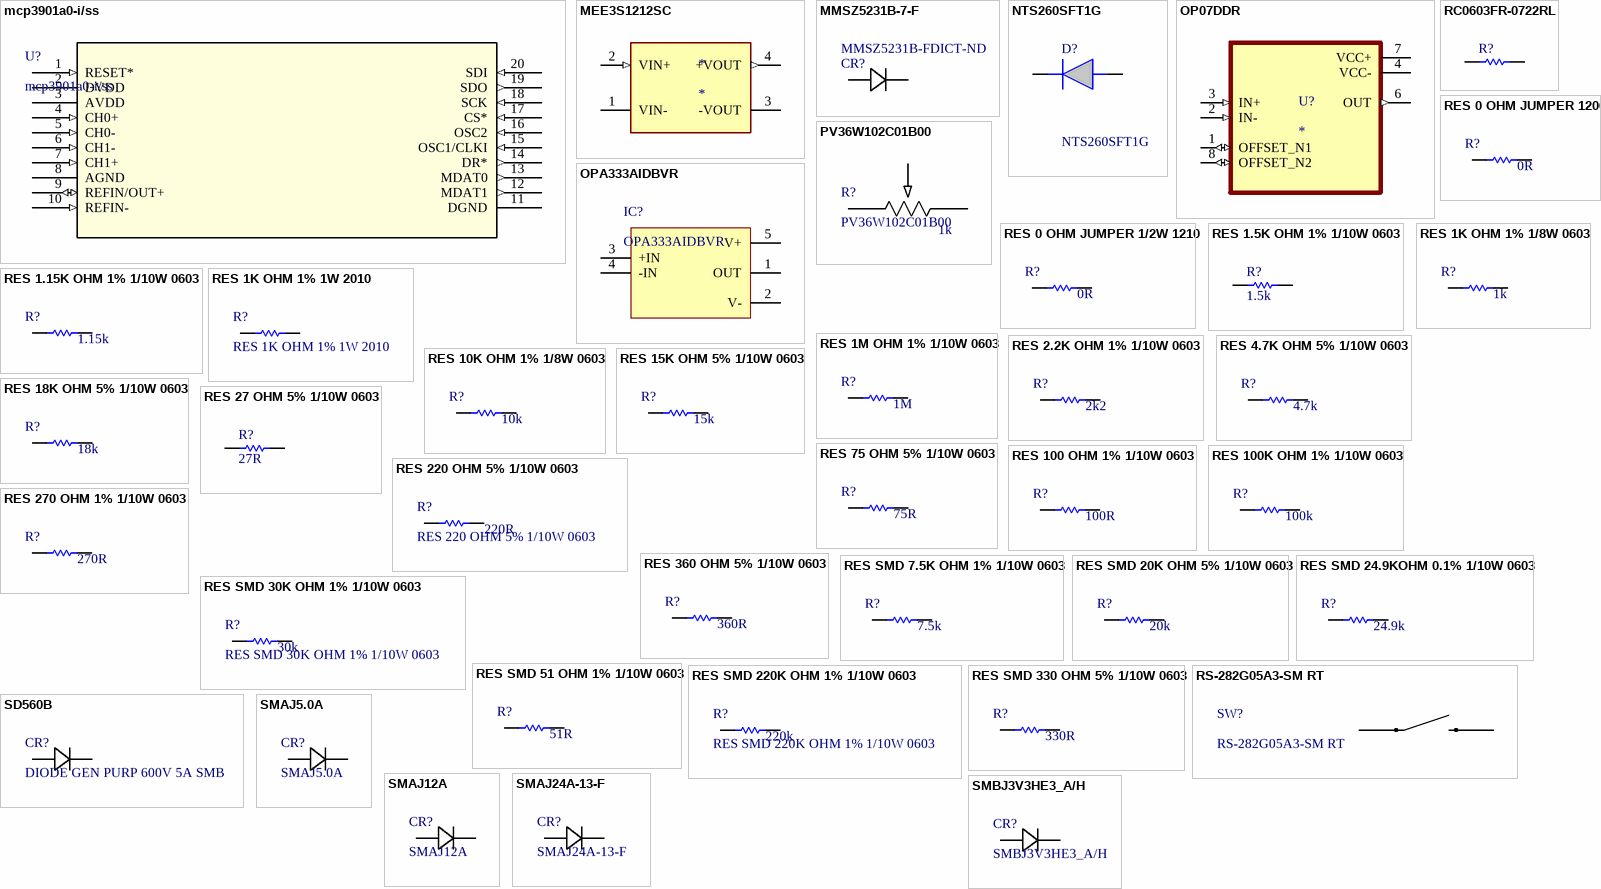
[diagram p2: symbols mcp3901a0-i/ss to SMBJ3V3HE3_A/H]

## mcp3901a0-i/ss
designator U?
No Description Available; Mfr_Name: Microchip; Copyright: Copyright (C) 2022 Ultra Librarian. All rights reserved.; Manufacturer_Part_Number: mcp3901a0-i/ss; Digi-Key_Part_Number_1: MCP3901A0-I/SS-ND; RefDes: RefDes; Type: DEV
footprint SSOP20_MC_MCH
pins: 1 RESET* (in), 2 DVDD (power), 3 AVDD (power), 4 CH0+ (in), 5 CH0- (in), 6 CH1- (in), 7 CH1+ (in), 8 AGND (power), 9 REFIN/OUT+ (io), 10 REFIN- (in), 11 DGND (power), 12 MDAT1 (out), 13 MDAT0 (out), 14 DR* (out), 15 OSC1/CLKI (in), 16 OSC2 (in), 17 CS* (in), 18 SCK (in), 19 SDO (out), 20 SDI (in)

## MEE3S1212SC
designator *
pins: 1 VIN-, 2 VIN+ (in), 3 -VOUT, 4 +VOUT (out)

## MMSZ5231B-7-F
designator CR?, comment Supplier Part Number 1: MMSZ5231B-FDICT-ND  (hidden comment: DIODE ZENER 5.1V 500MW SOD123)
Zener Diode 5.1 V 500 mW ±5% Surface Mount SOD-123; Mfr_Name: Diodes Inc; Manufacturer_Part_Number: MMSZ5231B-7-F; Type: DEV; Copyright: Copyright (C) 2023 Ultra Librarian. All rights reserved.; Digi-Key_Part_Number_1: MMSZ5231B-FDICT-ND; Digi-Key_Part_Number_2: MMSZ5231B-FDIDKR-ND; Digi-Key_Part_Number_3: MMSZ5231B-FDITR-ND; Digi-Key_Part_Number_4: MMSZ5231B-FDITR-NDL; RefDes: RefDes; Supplier PN: MMSZ5231B-FDICT-ND; Manufacturer PN: MMSZ5231B-7-F; Supplier 1: Digi-Key
footprint SOD123_DIO
pins: 1, 2

## NTS260SFT1G
designator D?
Fine Lithography Trenchbased Schottky Technology for Very Low Forward Voltage and Low Leakage; Fast Switching with Exceptional Temperature Stability; Low Power Loss and Lower Operating Temperature; Higher Efficiency for Achieving Regulatory Compliance; Low Thermal Resistance; High Surge Capability; These are PbFree and HalideFree Devices; Manufacturer_Name: onsemi; Geometry.Height: 0.98mm; Manufacturer_Part_Number: NTS260SFT1G; Mouser Part Number: 863-NTS260SFT1G; Mouser Price/Stock: https://www.mouser.co.uk/ProductDetail/onsemi/NTS260SFT1G?qs=k6dkFvHqcvCML1heMZjMng%3D%3D; Arrow Part Number: NTS260SFT1G; Arrow Price/Stock: https://www.arrow.com/en/products/nts260sft1g/on-semiconductor; Datasheet Link: https://www.onsemi.com/pub/Collateral/NTS260SF-D.PDF
footprint SODFL3616X98N
pins: 1 K, 2 A

## OP07DDR
designator U?
MP: OP07DDR; Package: None; Price: None; Value: *; Availability: Unavailable; Supplier: Digikey; Supplier PN: 296-14627-1-ND
footprint SOIC127P599X175-8N
pins: 1 OFFSET_N1 (io), 2 IN- (in), 3 IN+ (in), 4 VCC- (power), 6 OUT (out), 7 VCC+ (power), 8 OFFSET_N2 (io)

## OPA333AIDBVR
designator IC?
Supplier 1: Digi-Key; Supplier Part Number 1: 296-26269-1-ND
footprint SOT23-5
pins: 1 OUT, 2 V-, 3 +IN, 4 -IN, 5 V+

## PV36W102C01B00
designator R?  Resistance: 1k
TRIMMER 1K OHM 0.5W PC PIN TOP; Mfr_Name: Murata; Supper PN: 490-2874-ND; Copyright: Copyright (C) 2022 Ultra Librarian. All rights reserved.; Manufacturer_Part_Number: PV36W102C01B00; Digi-Key_Part_Number_1: 490-2874-ND; RefDes: RefDes; Type: DEV; Supplier 1: Digi-Key; Supplier Part Number 1: 490-2874-ND; Supplier: DIGIKEY; Manufacturer PN: PV36W102C01B00
footprint POT_PV36W_MUR
pins: 1, 2, 3

## RC0603FR-0722RL
designator R?  (value not drawn)
RES 22 OHM 1% 1/10W 0603; Resistance: 22R; Supplier PN: 311-22.0HRCT-ND; Supplier: DIGIKEY; ComponentLink1Description: Supplier Link; ComponentLink1URL: 0R; Supplier 1: Digi-Key; Supplier Part Number 1: 311-22.0HRCT-ND
footprint 0603 RES
pins: 1, 2

## RES 0 OHM JUMPER 1/2W 1210
designator R?, comment Resistance: 0R  (hidden comment: RES 0 OHM JUMPER 1/2W 1210*)
0 Ohms Jumper Chip Resistor 1210 (3225 Metric) Moisture Resistant Thick Film; Manufacturer PN: RC1210JR-070RL; Supplier 1: Digi-Key; Supplier Part Number 1: YAG3375CT-ND; Supplier PN: YAG3375CT-ND
footprint RESC3126X65N
pins: 1, 2

## RES 0 OHM JUMPER 1206
designator R?  Resistance: 0R  (hidden comment: RES 0 OHM JUMPER 1206)
0 Ohms Jumper Chip Resistor 1206; Manufacturer PN: RC1210JR-070RL; Supplier 1: Digi-Key; Supplier Part Number 1: YAG3375CT-ND; Supplier PN: YAG3375CT-ND
footprint RES 1206 (C3216X70N)
pins: 1, 2

## RES 1.5K OHM 1% 1/10W 0603
designator R?, comment Resistance: 1.5k  (hidden comment: RC0603FR-071K5L)
RES 1.5K OHM 1% 1/10W 0603; Manufacturer: YAGEO; Supplier PN: 311-1.50KHRCT-ND; Supplier: DIGIKEY; ComponentLink1Description: Supplier Link; ComponentLink1URL: 0R; Manufacturer PN: RC0603FR-071K5L; Supplier 1: Digi-Key; Supplier Part Number 1: 311-1.50KHRCT-ND
footprint 0603 RES
pins: 1, 2

## RES 1.15K OHM 1% 1/10W 0603
designator R?  Resistance: 1.15k  (hidden comment: RES 1.15K OHM 1% 1/10W 0603)
1.15 kOhms ±1% 0.1W, 1/10W Chip Resistor 0603 (1608 Metric) Moisture Resistant Thick Film; Manufacturer PN: RC0603FR-071K15L; Manufacturer: YAGEO; Supplier PN: 311-1.15KHRCT-ND; Supplier: Digikey; Supplier 1: Digi-Key; Supplier Part Number 1: 311-1.15KHRCT-ND
footprint 0603 RES
pins: 1, 2

## RES 1K OHM 1% 1/8W 0603
designator R?  Resistance: 1k  (hidden comment: RES 1K OHM 1% 1/8W 0603)
1 kOhms ±1% 0.125W, 1/8W Chip Resistor 0603 (1608 Metric) Anti-Sulfur Thin Film; Manufacturer PN: RNCP0603FTD1K00; Manufacturer: Stackpole Electronics Inc; Supplier PN: RNCP0603FTD1K00CT-ND; Supplier: Digikey
footprint 0603 RES
pins: 1, 2

## RES 1K OHM 1% 1W 2010
designator R?
1 kOhms ±1% 1W Chip Resistor 2010 (5025 Metric) Automotive AEC-Q200 Thick Film; Manufacturer PN: RMCP2010FT1K00; Supplier 1: Digi-Key; Supplier Part Number 1: RMCP2010FT1K00CT-ND; Supplier PN: RMCP2010FT1K00CT-ND
footprint 2010 RES
pins: 1, 2

## RES 1M OHM 1% 1/10W 0603
designator R?  Resistance: 1M  (hidden comment: RES 1M OHM 1% 1/10W 0603)
1 MOhms ±1% 0.1W, 1/10W Chip Resistor 0603 (1608 Metric) Moisture Resistant Thick Film; Manufacturer PN: RC0603FR-071ML; Manufacturer: YAGEO; Supplier PN: 311-1.00MHRCT-ND; Supplier: Digikey; Supplier 1: Digi-Key; Supplier Part Number 1: 311-1.00MHRCT-ND
footprint 0603 RES
pins: 1, 2

## RES 2.2K OHM 1% 1/10W 0603
designator R?  Resistance: 2k2  (hidden comment: RES 2.2K OHM 1% 1/10W 0603)
2.2 kOhms ±1% 0.1W, 1/10W Chip Resistor 0603 (1608 Metric) Moisture Resistant Thick Film; Manufacturer PN: RC0603FR-072K2L; Supplier PN: 311-2.20KHRCT-ND; Supplier: Digikey; Supplier 1: Digi-Key; Supplier Part Number 1: 311-2.20KHRCT-ND
footprint 0603 RES
pins: 1, 2

## RES 4.7K OHM 5% 1/10W 0603
designator R?  Resistance: 4.7k  (hidden comment: RES 4.7K OHM 5% 1/10W 0603)
4.7 kOhms ±5% 0.1W, 1/10W Chip Resistor 0603 (1608 Metric) Moisture Resistant Thick Film; Supplier PN: 311-4.7KGRCT-ND; Supplier: Digikey; Supplier 1: Digi-Key; Supplier Part Number 1: 311-4.7KGRCT-ND
footprint 0603 RES
pins: 1, 2

## RES 10K OHM 1% 1/8W 0603
designator R?  Resistance: 10k  (hidden comment: RES 10K OHM 1% 1/8W 0603)
10 kOhms ±1% 0.125W, 1/8W Chip Resistor 0603 (1608 Metric) Anti-Sulfur Thin Film; Supplier PN: RNCP0603FTD10K0CT-ND; Supplier: Digikey; Supplier 1: Digi-Key; Supplier Part Number 1: RNCP0603FTD10K0CT-ND
footprint 0603 RES
pins: 1, 2

## RES 15K OHM 5% 1/10W 0603
designator R?  Resistance: 15k  (hidden comment: RES 15K OHM 5% 1/10W 0603)
15 kOhms ±5% 0.1W, 1/10W Chip Resistor 0603 (1608 Metric) Thick Film; Manufacturer: Walsin Technology Corporation; Manufacturer PN: WR06X153 JTL; Supplier PN: 1292-WR06X153JTLCT-ND; Supplier: Digikey
footprint 0603 RES
pins: 1, 2

## RES 18K OHM 5% 1/10W 0603
designator R?  Resistance: 18k  (hidden comment: RES 18K OHM 5% 1/10W 0603)
18 kOhms ±5% 0.1W, 1/10W Chip Resistor 0603 (1608 Metric) Moisture Resistant Thick Film; Manufacturer PN: RC0603JR-0718KL; Manufacturer: YAGEO; Supplier PN: 311-18KGRCT-ND; Supplier: Digikey; Supplier 1: Digi-Key; Supplier Part Number 1: 311-18KGRCT-ND
footprint 0603 RES
pins: 1, 2